# EAGLE library part H-BRIDGE (library Mylib)
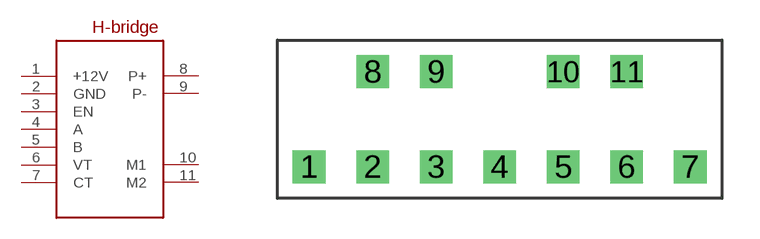
[diagram p5: symbol with the pads of H-BRIDGE; footprint H-BRIDGE]

Designator prefix -

## H-BRIDGE  [H-BRIDGE]
1  +12V
2  GND
3  EN
4  A
5  B
6  VT
7  CT
8  P+
9  P-
10  M1
11  M2

## Footprint H-BRIDGE (pad centres in mm)
drill 0.8 square: 1 -7.62,-2.54; 2 -5.08,-2.54; 3 -2.54,-2.54; 4 0,-2.54; 5 2.54,-2.54; 6 5.08,-2.54; 7 7.62,-2.54; 8 -5.08,1.27; 9 -2.54,1.27; 10 2.54,1.27; 11 5.08,1.27